# Altium footprint library PcbLib1.PcbLib: 27 footprints (part 1 of 2)
Each footprint in its own frame and in the unit in brackets; x right, y up, seen from the top. Pads: shape width x height; smd on the part's side, far side on the other; paste and mask are expansions set on the pad; w line width, h text height; cw(c..) or ccw(c..) is an arc to the next point about the centre after c.
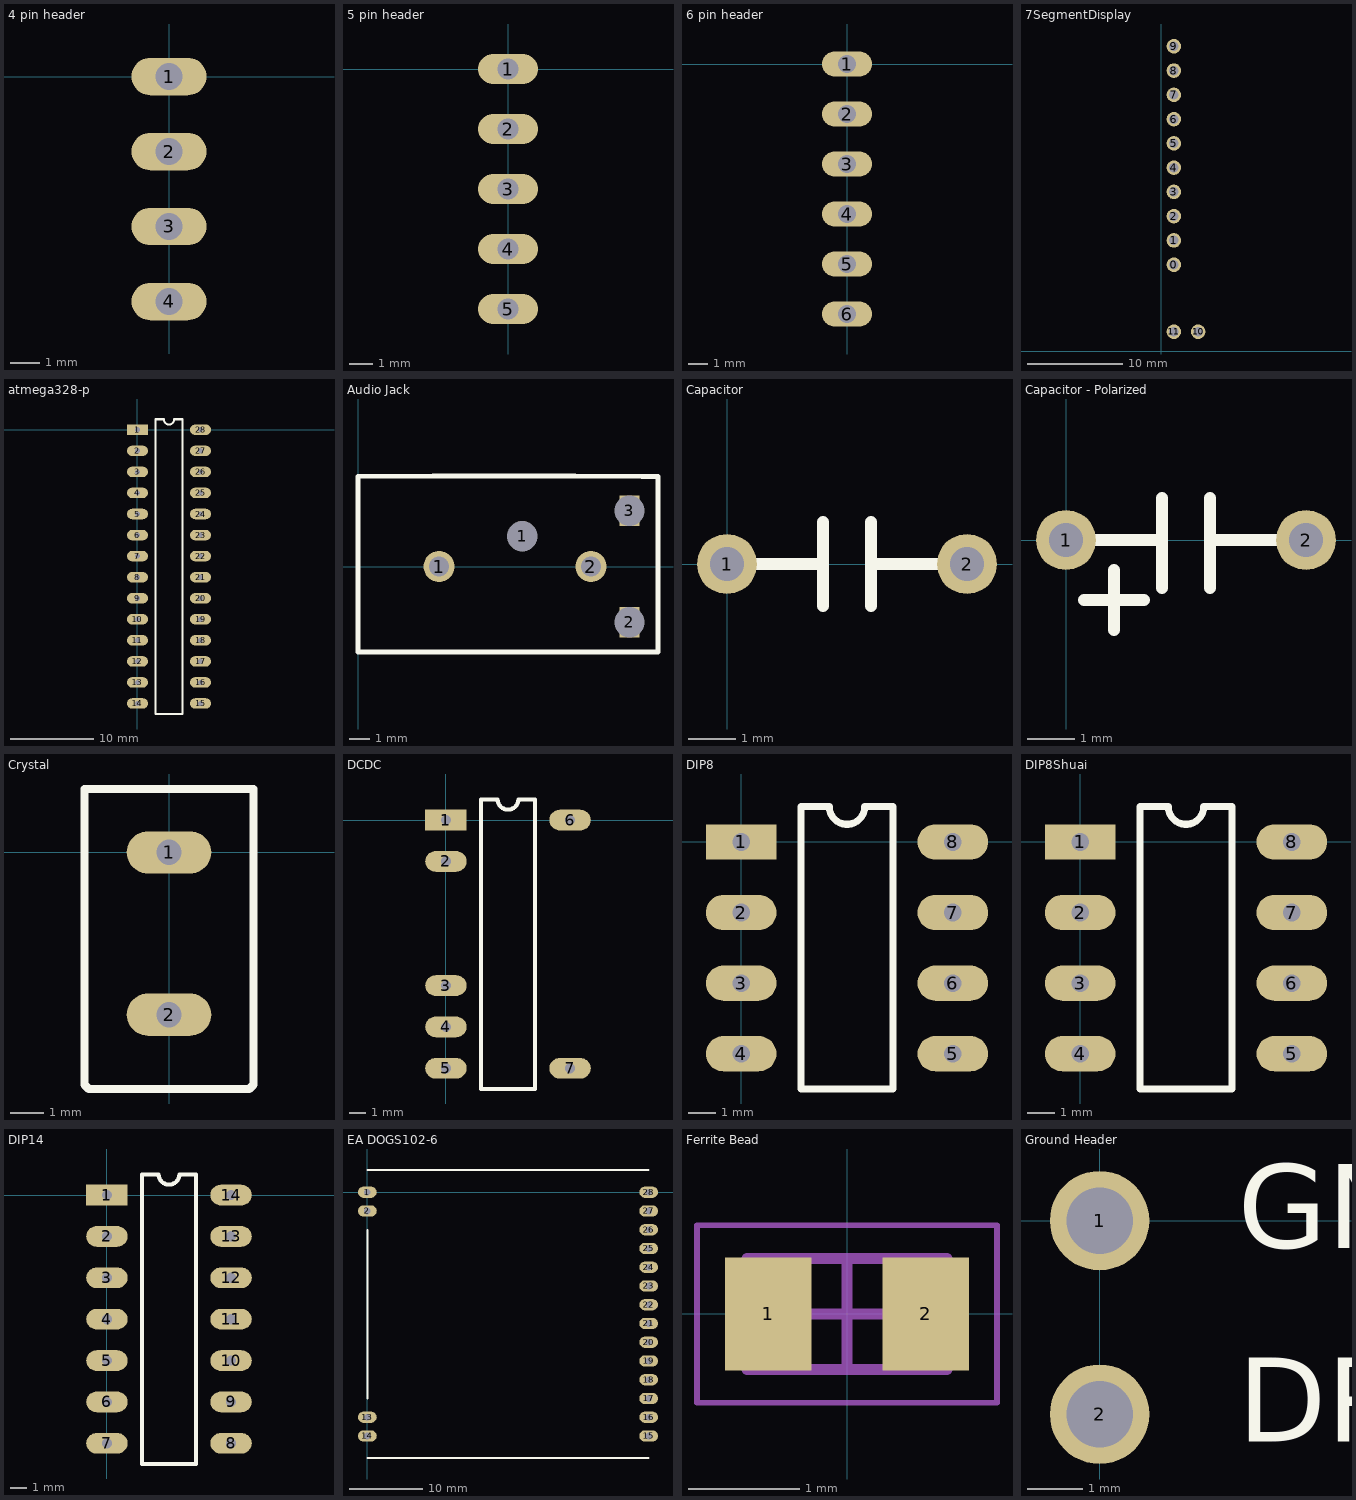
[diagram p0: the footprints below, top view; thin cyan lines are the x and y axes]

## 4 pin header [mm]
pads (4):
  oval 2.54x1.27 hole 0.9: 1(0,0) 2(0,-2.54) 3(0,-5.08) 4(0,-7.62)

## 5 pin header [mm]
pads (5):
  oval 2.54x1.27 hole 0.9: 1(0,0) 2(0,-2.54) 3(0,-5.08) 4(0,-7.62) 5(0,-10.16)

## 6 pin header [mm]
pads (6):
  oval 2.54x1.27 hole 0.9: 1(0,0) 2(0,-2.54) 3(0,-5.08) 4(0,-7.62) 5(0,-10.16) 6(0,-12.7)

## 7SegmentDisplay [mil]
pads (12):
  round 60 hole 39: 0(52,357) 1(52,457) 2(52,557) 3(52,657) 4(52,757) 5(52,857) 6(52,957) 7(52,1057) 8(52,1157) 9(52,1257) 10(152,81) 11(52,81)

## atmega328-p [mil]
pads (28):
  rect 100x50 hole 25: 1(0,0)
  oval 100x50 hole 25: 2(0,-100) 3(0,-200) 4(0,-300) 5(0,-400) 6(0,-500) 7(0,-600) 8(0,-700) 9(0,-800) 10(0,-900) 11(0,-1000) 12(0,-1100) 13(0,-1200) 14(0,-1300) 15(300,-1300) 16(300,-1200) 17(300,-1100) 18(300,-1000) 19(300,-900) 20(300,-800) 21(300,-700) 22(300,-600) 23(300,-500) 24(300,-400) 25(300,-300) 26(300,-200) 27(300,-100) 28(300,0)
Top Overlay:
  lines w10: 125,50 85,50 85,-1350 215,-1350 215,50 175,50 ; 125,50.5 ccw(c150,50) 175,50.5

## Audio Jack [mm] "2092-STX-3000-ND"
height 0.006
pads (5):
  round 1.524 hole 1 unplated: 1(4,0)
  oval 1x1.5 hole 1.5 square mask+0.013: 1(8.1,1.5)
  round 1.524 hole 1: 2(11.5,0)
  rect 1x1.5 hole 1.5 square mask+0.013: 2(13.4,-2.75) 3(13.4,2.75)
Top Overlay:
  lines w0.254: 0,-4.216 0,3.6 0,4.438 0.025,4.438 3.703,4.464 10.703,4.464 14.025,4.438 14.808,4.438 14.808,3.6 14.808,-4.216 0,-4.216

## Capacitor [mil] "200 mil"
pads (2):
  round 50 hole 28: 1(0,0) 2(200,0)
Top Overlay:
  lines w10: 0,0 75,0 ; 80,-35 80,35 ; 120,-35 120,35 ; 120,0 200,0

## Capacitor - Polarized [mil] "200 mil"
pads (2):
  round 50 hole 28: 1(0,0) 2(200,0)
Top Overlay:
  lines w10: 0,0 75,0 ; 15,-50 65,-50 ; 40,-75 40,-25 ; 80,-40 80,35 ; 120,-40 120,35 ; 120,0 200,0

## Crystal [mil]
pads (2):
  oval 100x50 hole 30: 1(0,0) 2(0,-192)
Top Overlay:
  lines w10: -100,-275 -95,-280 95,-280 100,-275 100,75 -100,75 -100,-275

## DCDC [mil]
pads (7):
  rect 100x50 hole 25: 1(0,0)
  oval 100x50 hole 25: 2(0,-100) 3(0,-400) 4(0,-500) 5(0,-600) 6(300,0) 7(300,-600)
Top Overlay:
  lines w10: 85,-650 215,-650 215,50 175,50 cw(c150,50) 125,50 85,50 85,-650

## DIP8 [mil]
pads (8):
  rect 100x50 hole 25: 1(0,0)
  oval 100x50 hole 25: 2(0,-100) 3(0,-200) 4(0,-300) 5(300,-300) 6(300,-200) 7(300,-100) 8(300,0)
Top Overlay:
  lines w10: 85,-350 215,-350 215,50 175,50 cw(c150,50) 125,50 85,50 85,-350

## DIP8Shuai [mil]
pads (8):
  rect 100x50 hole 25: 1(0,0)
  oval 100x50 hole 25: 2(0,-100) 3(0,-200) 4(0,-300) 5(300,-300) 6(300,-200) 7(300,-100) 8(300,0)
Top Overlay:
  lines w10: 85,-350 215,-350 215,50 175,50 cw(c150,50) 125,50 85,50 85,-350

## DIP14 [mil]
pads (14):
  rect 100x50 hole 25: 1(0,0)
  oval 100x50 hole 25: 2(0,-100) 3(0,-200) 4(0,-300) 5(0,-400) 6(0,-500) 7(0,-600) 8(300,-600) 9(300,-500) 10(300,-400) 11(300,-300) 12(300,-200) 13(300,-100) 14(300,0)
Top Overlay:
  lines w10: 85,-650 215,-650 215,50 175,50 cw(c150,50) 125,50 85,50 85,-650

## EA DOGS102-6 [mil]
pads (18):
  oval 100x60 hole 35.43: 1(0,0) 2(0,-100) 13(0,-1200) 14(0,-1300) 15(1500,-1300) 16(1500,-1200) 17(1500,-1100) 18(1500,-1000) 19(1500,-900) 20(1500,-800) 21(1500,-700) 22(1500,-600) 23(1500,-500) 24(1500,-400) 25(1500,-300) 26(1500,-200) 27(1500,-100) 28(1500,0)
Top Overlay:
  lines w10: 0,-1417.32 1500,-1417.32 ; 0,-1100 0,-200 ; 0,118.11 1500,118.11

## Ferrite Bead [mm] "Chip Inductor, 2-Leads, Body 1.60x0.80mm, IPC Medium Density"
height 0.6
pads (2):
  rect 0.78x1.02 smd: 1(-0.71,0) 2(0.71,0)
Mechanical 13:
  lines w0.1: -0.9,-0.5 0.9,-0.5 0.9,0.5 -0.9,0.5 -0.9,-0.5
Mechanical 15:
  lines w0.05: -1.35,-0.8 1.35,-0.8 1.35,0.8 -1.35,0.8 -1.35,-0.8
  lines w0.1: -0.5,0 0.5,0 ; 0,-0.5 0,0.5
3D body: height 0.6, standoff 0, extent 0.6,-0.5 0.9,0.5
3D body: height 0.6, standoff 0, extent -0.9,-0.5 -0.6,0.5
3D body: height 0.6, standoff 0, extent -0.6,-0.5 0.6,0.5

## Ground Header [mm]
pads (2):
  round 1.8 hole 1.2: 1(0,0) 2(0,-3.5)
Top Overlay:
  text "DRL" at 2.5,-4 h1.52
  text "GND" at 2.5,-0.5 h1.52